# EAGLE library part DRV8837DSGR (library DRV8837DSG)
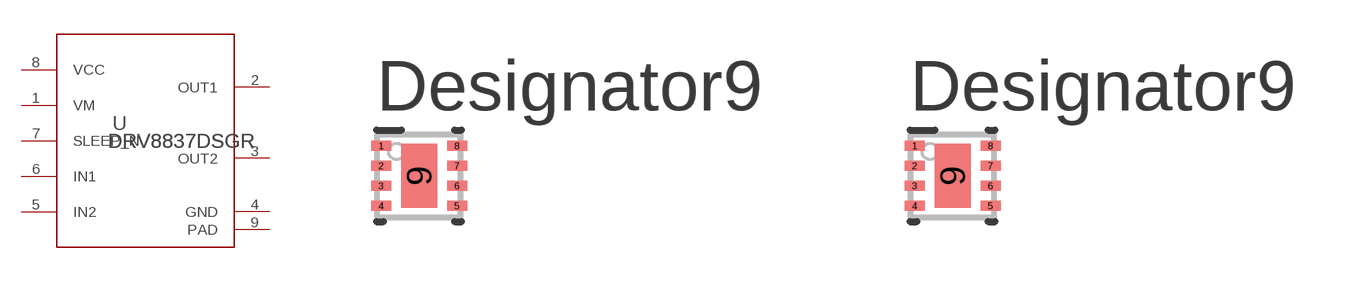
[diagram p0: symbol with the pads of DSG0008A; footprints DSG0008A, DSG0008A_NV]

Designator prefix U

## DRV8837DSGR  [DSG0008A]
1  VM  pwr
2  OUT1  pwr
3  OUT2  pwr
4  GND  pwr
5  IN2  in
6  IN1  in
7  SLEEP_N  in
8  VCC  pwr
9  PAD  pwr

## DRV8837DSGRDSG0008A_NV  [DSG0008A_NV]
Pads as for DSG0008A

## Footprint DSG0008A (pad centres in mm)
smd 0.5 x 0.25: 1 -0.95,0.75; 2 -0.95,0.25; 3 -0.95,-0.25; 4 -0.95,-0.75; 5 0.95,-0.75; 6 0.95,-0.25; 7 0.95,0.25; 8 0.95,0.75
smd 0.9 x 1.6: 9 0,0

## Footprint DSG0008A_NV (pad centres in mm)
smd 0.5 x 0.25: 1 -0.95,0.75; 2 -0.95,0.25; 3 -0.95,-0.25; 4 -0.95,-0.75; 5 0.95,-0.75; 6 0.95,-0.25; 7 0.95,0.25; 8 0.95,0.75
smd 0.9 x 1.6: 9 0,0